# Altium schematic symbol library CN_DB9.SchLib: 1 symbol
Pins are listed as number, name and electrical type; pins without a type are passive.

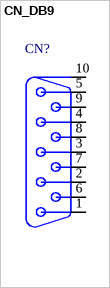
[diagram p0: symbol CN_DB9]

## CN_DB9
designator CN?
pins: 1, 2, 3, 4, 5, 6, 7, 8, 9, 10